# EAGLE library part BASIX_JK (library gumstix)
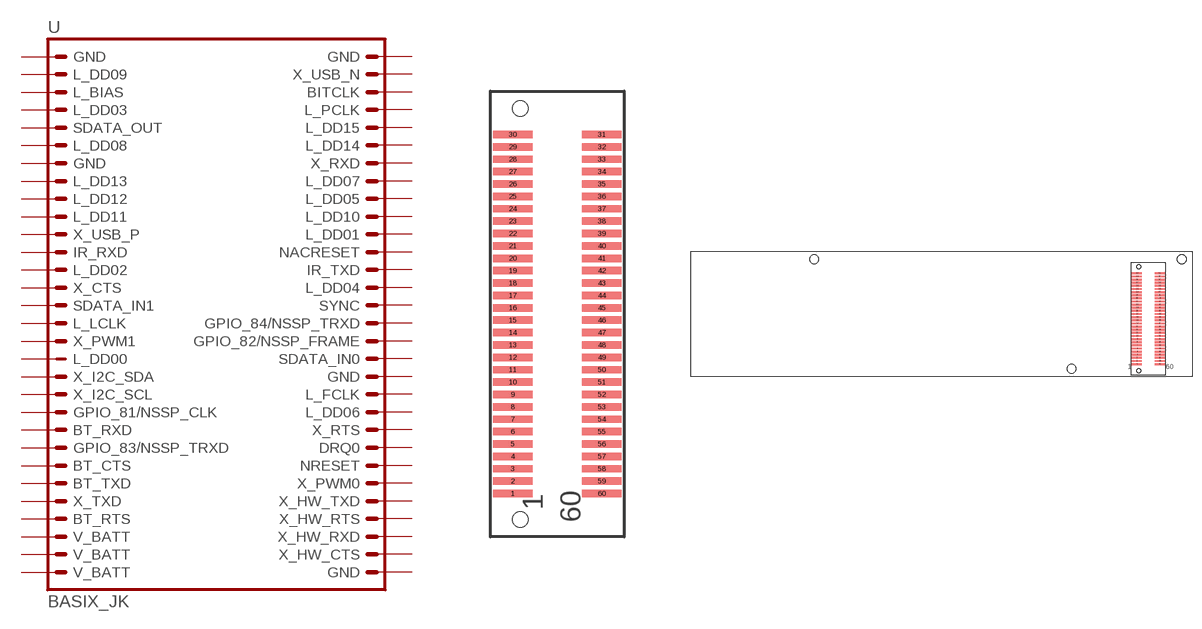
[diagram p1: symbol with the pads of DF12; footprints DF12, GUMDF12]

Designator prefix -

## BASIX_JKHEADER  [DF12]
1  GND  pwr
2  L_DD09
3  L_BIAS
4  L_DD03
5  SDATA_OUT
6  L_DD08
7  GND  pwr
8  L_DD13
9  L_DD12
10  L_DD11
11  X_USB_P
12  IR_RXD
13  L_DD02
14  X_CTS
15  SDATA_IN1
16  L_LCLK
17  X_PWM1
18  L_DD00
19  X_I2C_SDA
20  X_I2C_SCL
21  GPIO_81/NSSP_CLK
22  BT_RXD
23  GPIO_83/NSSP_TRXD
24  BT_CTS
25  BT_TXD
26  X_TXD
27  BT_RTS
28  V_BATT  pwr
29  V_BATT  pwr
30  V_BATT  pwr
31  GND  pwr
32  X_HW_CTS
33  X_HW_RXD
34  X_HW_RTS
35  X_HW_TXD
36  X_PWM0
37  NRESET
38  DRQ0
39  X_RTS
40  L_DD06
41  L_FCLK
42  GND  pwr
43  SDATA_IN0
44  GPIO_82/NSSP_FRAME
45  GPIO_84/NSSP_TRXD
46  SYNC
47  L_DD04
48  IR_TXD
49  NACRESET
50  L_DD01
51  L_DD10
52  L_DD05
53  L_DD07
54  X_RXD
55  L_DD14
56  L_DD15
57  L_PCLK
58  BITCLK
59  X_USB_N
60  GND  pwr

## BASIX_JKGUMSTIX  [GUMDF12]
Pads as for DF12

## Footprint DF12 (pad centres in mm)
Hirose DF12 60 pin connector Created by gordon@gumstix.com One significant reference used in creating this was the "DF12 Series.pdf" reference material from Hirose, Inc. This material is being made available according to the Creative Commons Attribution-ShareAlike license. THIS INFORMATION IS PROVIDED AS IS AND WITHOUT WARRANTY OF ANY KIND, EXPRESSED OR IMPLIED
smd 1.6 x 0.3: 1 -1.8,-7.25; 2 -1.8,-6.75; 3 -1.8,-6.25; 4 -1.8,-5.75; 5 -1.8,-5.25; 6 -1.8,-4.75; 7 -1.8,-4.25; 8 -1.8,-3.75; 9 -1.8,-3.25; 10 -1.8,-2.75; 11 -1.8,-2.25; 12 -1.8,-1.75; 13 -1.8,-1.25; 14 -1.8,-0.75; 15 -1.8,-0.25; 16 -1.8,0.25; 17 -1.8,0.75; 18 -1.8,1.25; 19 -1.8,1.75; 20 -1.8,2.25; 21 -1.8,2.75; 22 -1.8,3.25; 23 -1.8,3.75; 24 -1.8,4.25; 25 -1.8,4.75; 26 -1.8,5.25; 27 -1.8,5.75; 28 -1.8,6.25; 29 -1.8,6.75; 30 -1.8,7.25; 31 1.8,7.25; 32 1.8,6.75; 33 1.8,6.25; 34 1.8,5.75; 35 1.8,5.25; 36 1.8,4.75; 37 1.8,4.25; 38 1.8,3.75; 39 1.8,3.25; 40 1.8,2.75; 41 1.8,2.25; 42 1.8,1.75; 43 1.8,1.25; 44 1.8,0.75; 45 1.8,0.25; 46 1.8,-0.25; 47 1.8,-0.75; 48 1.8,-1.25; 49 1.8,-1.75; 50 1.8,-2.25; 51 1.8,-2.75; 52 1.8,-3.25; 53 1.8,-3.75; 54 1.8,-4.25; 55 1.8,-4.75; 56 1.8,-5.25; 57 1.8,-5.75; 58 1.8,-6.25; 59 1.8,-6.75; 60 1.8,-7.25
hole 0.61 at -1.5,8.3
hole 0.61 at -1.5,-8.3

## Footprint GUMDF12 (pad centres in mm)
Hirose DF12 60 pin connector plus gumstix board outline and mounting holes The header connector and an outline of the overlying gumstix including the 3 drillholes. Created by gordon@gumstix.com One significant reference used in creating this was the "DF12 Series.pdf" reference material from Hirose, Inc. This material is being made available according to the Creative Commons Attribution-ShareAlike license. THIS INFORMATION IS PROVIDED AS IS AND WITHOUT WARRANTY OF ANY KIND, EXPRESSED OR IMPLIED
smd 1.6 x 0.3: 1 -1.8,-7.25; 2 -1.8,-6.75; 3 -1.8,-6.25; 4 -1.8,-5.75; 5 -1.8,-5.25; 6 -1.8,-4.75; 7 -1.8,-4.25; 8 -1.8,-3.75; 9 -1.8,-3.25; 10 -1.8,-2.75; 11 -1.8,-2.25; 12 -1.8,-1.75; 13 -1.8,-1.25; 14 -1.8,-0.75; 15 -1.8,-0.25; 16 -1.8,0.25; 17 -1.8,0.75; 18 -1.8,1.25; 19 -1.8,1.75; 20 -1.8,2.25; 21 -1.8,2.75; 22 -1.8,3.25; 23 -1.8,3.75; 24 -1.8,4.25; 25 -1.8,4.75; 26 -1.8,5.25; 27 -1.8,5.75; 28 -1.8,6.25; 29 -1.8,6.75; 30 -1.8,7.25; 31 1.8,7.25; 32 1.8,6.75; 33 1.8,6.25; 34 1.8,5.75; 35 1.8,5.25; 36 1.8,4.75; 37 1.8,4.25; 38 1.8,3.75; 39 1.8,3.25; 40 1.8,2.75; 41 1.8,2.25; 42 1.8,1.75; 43 1.8,1.25; 44 1.8,0.75; 45 1.8,0.25; 46 1.8,-0.25; 47 1.8,-0.75; 48 1.8,-1.25; 49 1.8,-1.75; 50 1.8,-2.25; 51 1.8,-2.75; 52 1.8,-3.25; 53 1.8,-3.75; 54 1.8,-4.25; 55 1.8,-4.75; 56 1.8,-5.25; 57 1.8,-5.75; 58 1.8,-6.25; 59 1.8,-6.75; 60 1.8,-7.25
hole 0.61 at -1.5,8.3
hole 0.61 at -1.5,-8.3
hole 1.422 at -12.25,-8
hole 1.422 at 5.35,9.5
hole 1.422 at -53.35,9.5